# Altium schematic symbol library NCS199A2RSQT2G.SchLib: 1 symbol
Pins are listed as number, name and electrical type; pins without a type are passive.

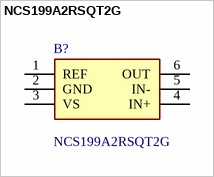
[diagram p0: symbol NCS199A2RSQT2G]

## NCS199A2RSQT2G
designator B?
CURRENT SENSE AMP G=100; Manufacturer_Name: onsemi; Geometry.Height: 1.1mm; Mouser Part Number: 863-NCS199A2RSQT2G; Mouser Price/Stock: https://www.mouser.co.uk/ProductDetail/onsemi/NCS199A2RSQT2G?qs=MLItCLRbWswy48vDwGmPrw%3D%3D; Manufacturer_Part_Number: NCS199A2RSQT2G; Datasheet Link: http://www.onsemi.com/pub/Collateral/NCS199A1R-D.PDF
footprint SOT65P210X110-6N
pins: 1 REF, 2 GND, 3 VS, 4 IN+, 5 IN-, 6 OUT